# EAGLE library part LTC6104CMS8PBF (library LTC6104)
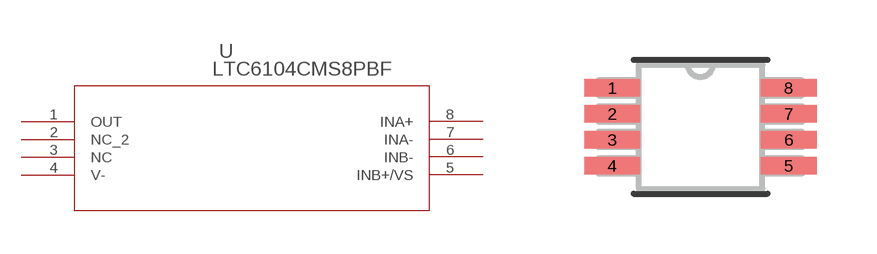
[diagram p0: symbol with the pads of MSOP-8_MS; footprint MSOP-8_MS]

Designator prefix -

## LTC6104CMS8PBF  [MSOP-8_MS]
1  OUT  out
2  NC_2  nc
3  NC  nc
4  V-  pwr
5  INB+/VS  pas
6  INB-  in
7  INA-  in
8  INA+  in

## Footprint MSOP-8_MS (pad centres in mm)
smd 1.397 x 0.432: 1 -2.21,0.975; 2 -2.21,0.325; 3 -2.21,-0.325; 4 -2.21,-0.975; 5 2.21,-0.975; 6 2.21,-0.325; 7 2.21,0.325; 8 2.21,0.975